# Altium integrated library library.IntLib: 9 symbols
Pins are listed as number, name and electrical type; pins without a type are passive.

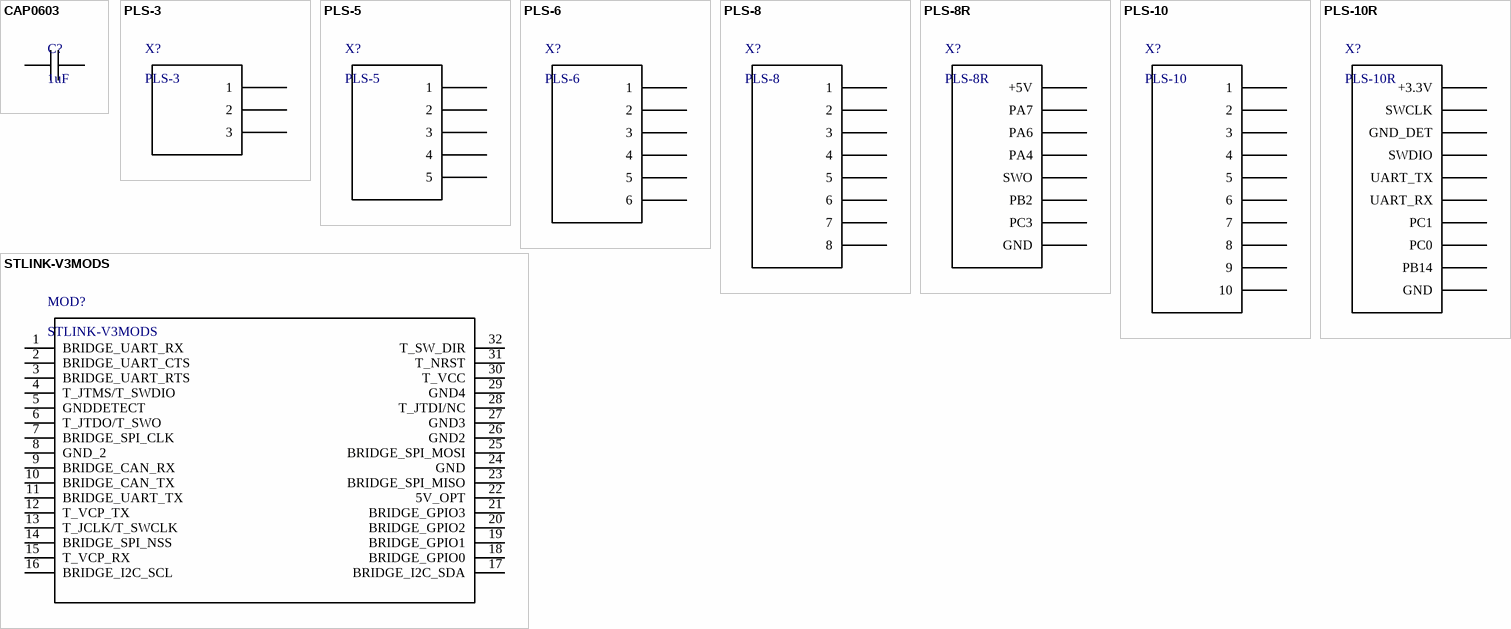
[diagram p0: symbols CAP0603 to STLINK-V3MODS]

## CAP0603
designator C?, comment 1uF
Chip capacitor 1uF 10% X7R 16V 0603
footprint CAP0603
pins: 1, 2

## PLS-3
designator X?
Pin header 1x3, male, straight, 2.54mm, THT
footprint PLS-3
pins: 1, 2, 3

## PLS-5
designator X?
Pin header 1x5, male, straight, 2.54mm, THT
footprint PLS-5
pins: 1, 2, 3, 4, 5

## PLS-6
designator X?
Pin header 1x6, male, straight, 2.54mm, THT
footprint PLS-6
pins: 1, 2, 3, 4, 5, 6

## PLS-8
designator X?
Pin header 1x8, male, straight; 2.54mm, THT
footprint PLS-8
pins: 1, 2, 3, 4, 5, 6, 7, 8

## PLS-8R
designator X?
Pin header 1x8, male, angular, 2.54mm, THT
footprint PLS-8R
pins: 1 +5V, 2 PA7, 3 PA6, 4 PA4, 5 SWO, 6 PB2, 7 PC3, 8 GND

## PLS-10
designator X?
Pin header 1x10, male, straight, 2.54mm, THT
footprint PLS-10
pins: 1, 2, 3, 4, 5, 6, 7, 8, 9, 10

## PLS-10R
designator X?
Pin header 1x10, male, angular, 2.54mm, THT
footprint PLS-10R
pins: 1 +3.3V, 2 SWCLK, 3 GND_DET, 4 SWDIO, 5 UART_TX, 6 UART_RX, 7 PC1, 8 PC0, 9 PB14, 10 GND

## STLINK-V3MODS
designator MOD?
footprint STLINK-V3MODS
pins: 1 BRIDGE_UART_RX, 2 BRIDGE_UART_CTS, 3 BRIDGE_UART_RTS, 4 T_JTMS/T_SWDIO, 5 GNDDETECT, 6 T_JTDO/T_SWO, 7 BRIDGE_SPI_CLK, 8 GND_2, 9 BRIDGE_CAN_RX, 10 BRIDGE_CAN_TX, 11 BRIDGE_UART_TX, 12 T_VCP_TX, 13 T_JCLK/T_SWCLK, 14 BRIDGE_SPI_NSS, 15 T_VCP_RX, 16 BRIDGE_I2C_SCL, 17 BRIDGE_I2C_SDA, 18 BRIDGE_GPIO0, 19 BRIDGE_GPIO1, 20 BRIDGE_GPIO2, 21 BRIDGE_GPIO3, 22 5V_OPT, 23 BRIDGE_SPI_MISO, 24 GND, 25 BRIDGE_SPI_MOSI, 26 GND2, 27 GND3, 28 T_JTDI/NC, 29 GND4, 30 T_VCC, 31 T_NRST, 32 T_SW_DIR